# EAGLE library part LTC3856 (library PowerProducts)
2-Phase Synchronous Step-Down DC/DC Controller with Diffamp
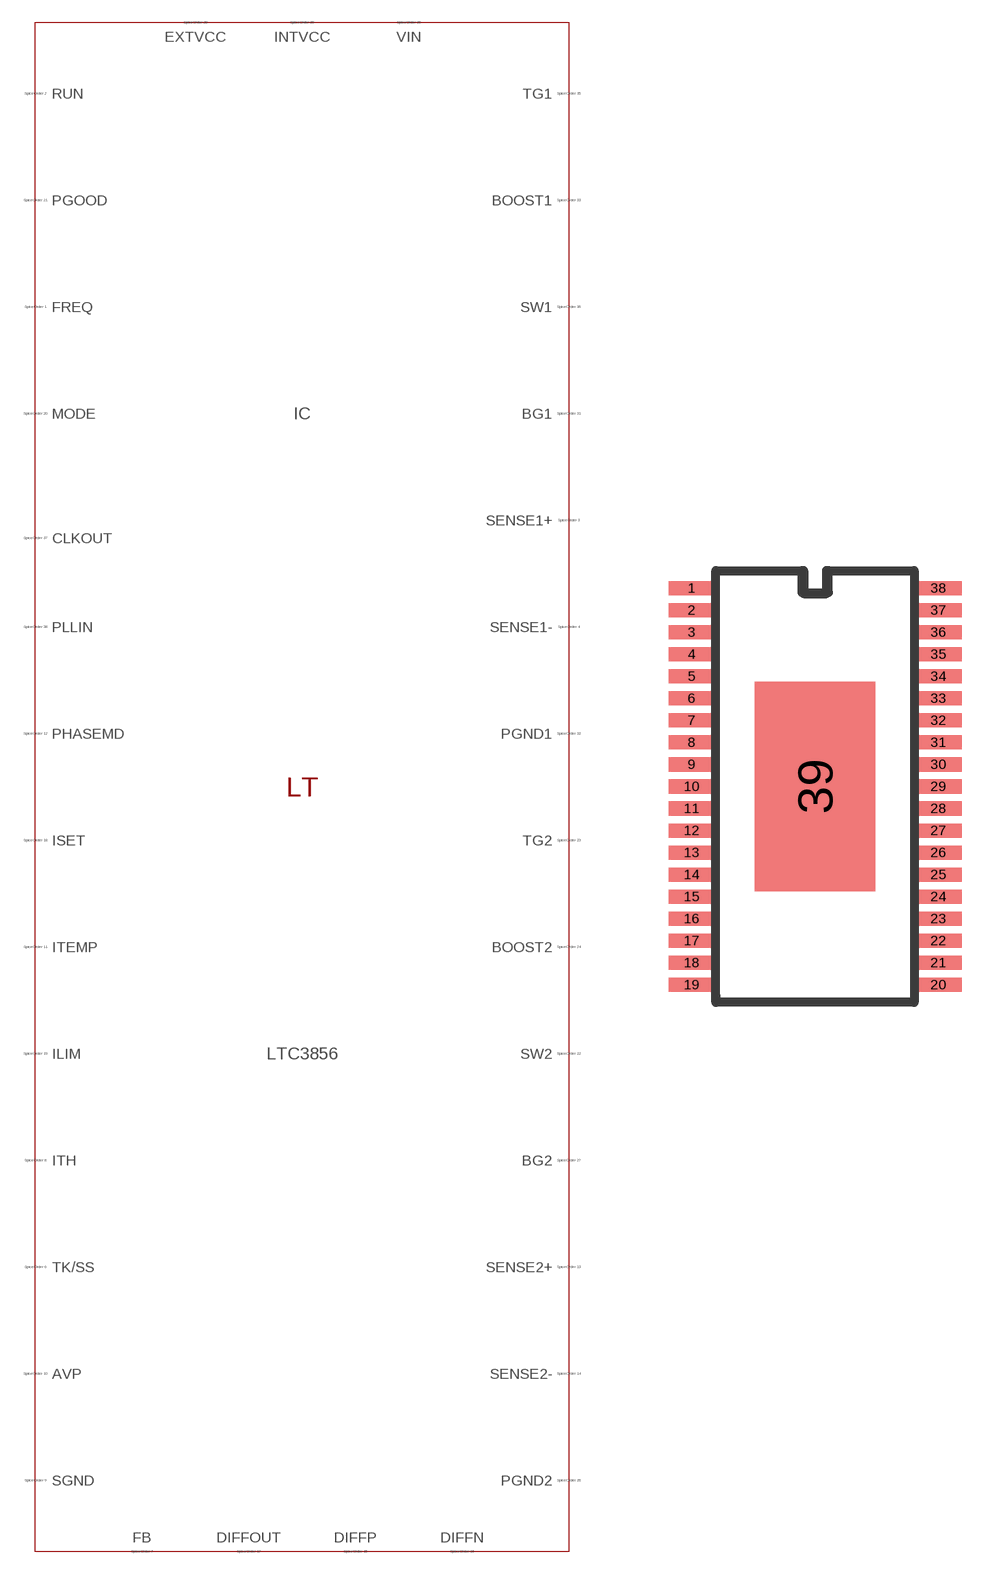
[diagram p372: symbol with the pads of TSSOP38AA(FE); footprint TSSOP38AA(FE)]

Designator prefix IC

## LTC3856 (SPICEMODEL: LTC3856.sub; SPICEPREFIX: X; VALUE2: LTC3856)  [TSSOP38AA(FE)]
1  FREQ  pas
2  RUN  pas
3  SENSE1+  pas
4  SENSE1-  pas
6  TK/SS  pas
7  FB  pas
8  ITH  pas
9  SGND  pas
10  AVP  pas
11  ITEMP  pas
12  PHASEMD  pas
13  SENSE2+  pas
14  SENSE2-  pas
15  DIFFP  pas
16  DIFFN  pas
17  DIFFOUT  pas
18  ISET  pas
19  ILIM  pas
20  MODE  pas
21  PGOOD  pas
22  SW2  pas
23  TG2  pas
24  BOOST2  pas
26  PGND2  pas
27  BG2  pas
28  EXTVCC  pas
29  INTVCC  pas
30  VIN  pas
31  BG1  pas
32  PGND1  pas
33  BOOST1  pas
35  TG1  pas
36  SW1  pas
37  CLKOUT  pas
38  PLLIN  pas
39  SGND  pas

## Footprint TSSOP38AA(FE) (pad centres in mm)
Package generated from: TSSOP38AA(FE).asc (!PADS-POWERPCB-V9.3-BASIC! DESIGN DATABASE ASCII FILE 1.0) with :import-pads-powerpcb-v5.ulp Version 1.0.1 at 04.10.2012 14:11:40
smd 1.575 x 0.48: 1 -4.2,6.75; 2 -4.2,6; 3 -4.2,5.25; 4 -4.2,4.5; 5 -4.2,3.75; 6 -4.2,3; 7 -4.2,2.25; 8 -4.2,1.5; 9 -4.2,0.75; 10 -4.2,0; 11 -4.2,-0.75; 12 -4.2,-1.5; 13 -4.2,-2.25; 14 -4.2,-3; 15 -4.2,-3.75; 16 -4.2,-4.5; 17 -4.2,-5.25; 18 -4.2,-6; 19 -4.2,-6.75; 20 4.2,-6.75; 21 4.2,-6; 22 4.2,-5.25; 23 4.2,-4.5; 24 4.2,-3.75; 25 4.2,-3; 26 4.2,-2.25; 27 4.2,-1.5; 28 4.2,-0.75; 29 4.2,0; 30 4.2,0.75; 31 4.2,1.5; 32 4.2,2.25; 33 4.2,3; 34 4.2,3.75; 35 4.2,4.5; 36 4.2,5.25; 37 4.2,6; 38 4.2,6.75
smd 4.11 x 7.125: 39 0,0